# Altium schematic symbol library PWR_REVE.SchLib: 1 symbol
Pins are listed as number, name and electrical type; pins without a type are passive.

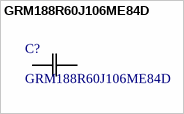
[diagram p0: symbol GRM188R60J106ME84D]

## GRM188R60J106ME84D
designator C?
No Description Available; Mfr_Name: Murata; Type: DEV; Copyright: Copyright (C) 2022 Ultra Librarian. All rights reserved.; Manufacturer_Part_Number: GRM188R60J106ME84D; Digi-Key_Part_Number_1: 490-7316-1-ND; Digi-Key_Part_Number_2: 490-7316-2-ND; Digi-Key_Part_Number_3: 490-7316-6-ND; RefDes: RefDes
footprint G-188_MUR
pins: 1, 2